# EAGLE library part DRV8881PPWPR (library motor-driver)
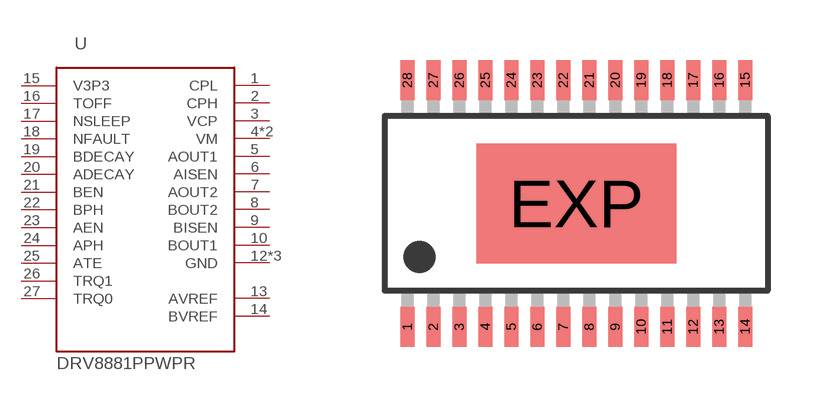
[diagram p1: symbol with the pads of TSSOP-28; footprint TSSOP-28]

Designator prefix -

## DRV8881PPWPR  [TSSOP-28]
1  CPL
2  CPH
3  VCP
4  VM
5  AOUT1
6  AISEN
7  AOUT2
8  BOUT2
9  BISEN
10  BOUT1
11  VM
12  GND
13  AVREF
14  BVREF
15  V3P3
16  TOFF
17  NSLEEP
18  NFAULT
19  BDECAY
20  ADECAY
21  BEN
22  BPH
23  AEN
24  APH
25  ATE
26  TRQ1
27  TRQ0
28  GND
EXP  GND

## Footprint TSSOP-28 (pad centres in mm)
smd 0.35 x 1: 1 -4.225,-3.087; 2 -3.575,-3.087; 3 -2.925,-3.087; 4 -2.275,-3.087; 5 -1.625,-3.087; 6 -0.975,-3.087; 7 -0.325,-3.087; 8 0.325,-3.087; 9 0.975,-3.087; 10 1.625,-3.087; 11 2.275,-3.087; 12 2.925,-3.087; 13 3.575,-3.087; 14 4.225,-3.087; 15 4.225,3.087; 16 3.575,3.087; 17 2.925,3.087; 18 2.275,3.087; 19 1.625,3.087; 20 0.975,3.087; 21 0.325,3.087; 22 -0.325,3.087; 23 -0.975,3.087; 24 -1.625,3.087; 25 -2.275,3.087; 26 -2.925,3.087; 27 -3.575,3.087; 28 -4.225,3.087
smd 5 x 3: EXP 0,0